# Altium footprint library PCB_lib.PcbLib: 29 footprints (part 2 of 2)
Each footprint in its own frame and in the unit in brackets; x right, y up, seen from the top. Pads: shape width x height; smd on the part's side, far side on the other; paste and mask are expansions set on the pad; w line width, h text height; cw(c..) or ccw(c..) is an arc to the next point about the centre after c.
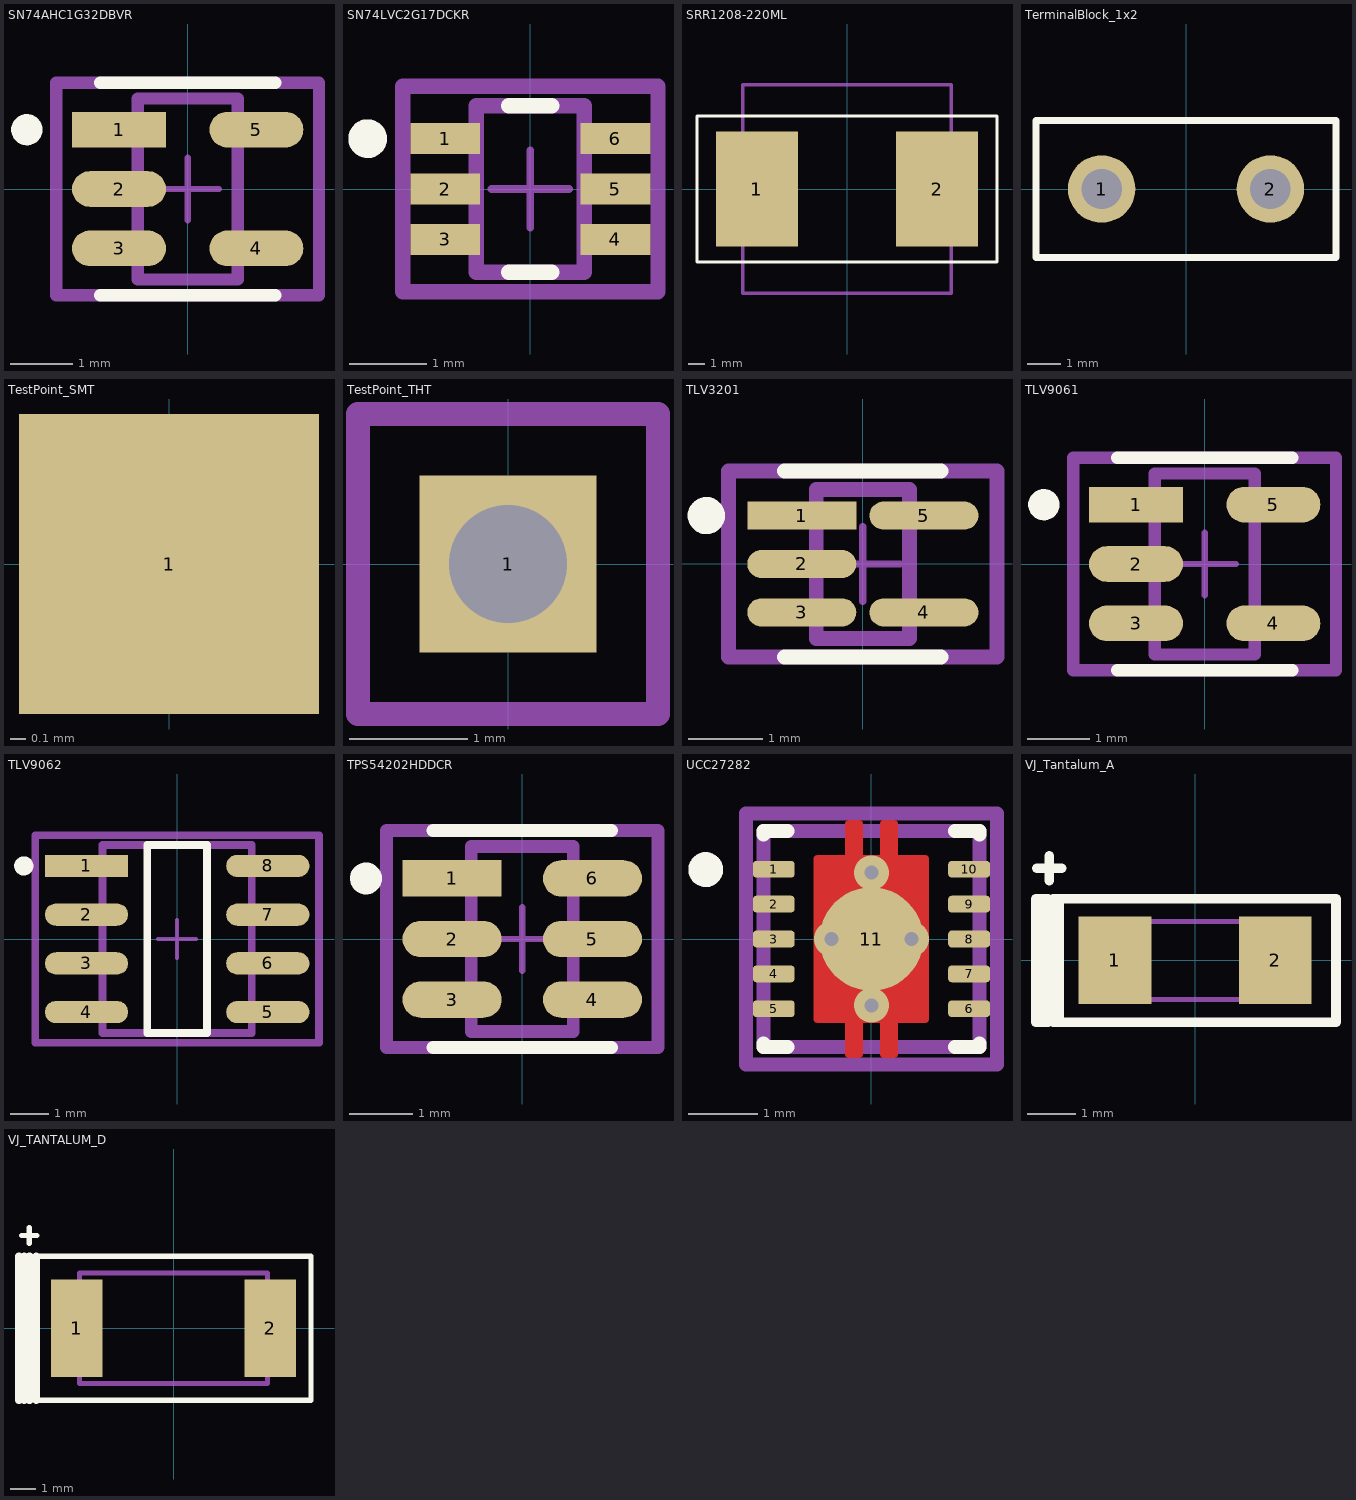
[diagram p1: the footprints below, top view; thin cyan lines are the x and y axes]

## SN74AHC1G32DBVR [mm]
pads (5):
  rect 1.505x0.572 smd paste+0 mask+0: 1(-1.1,0.95)
  rrect100% 1.505x0.572 smd paste+0 mask+0: 2(-1.1,0) 3(-1.1,-0.95) 4(1.1,-0.95) 5(1.1,0.95)
Top Overlay:
  circle w0.25: c-2.578,0.95 r0.125
  lines w0.2: -1.4,-1.7 1.4,-1.7 ; -1.4,1.7 1.4,1.7
Top Assembly:
  lines w0.2: -2.103,-1.7 2.103,-1.7 2.103,1.7 -2.103,1.7 -2.103,-1.7
  text ".Designator" at 0,-0.001 h1
Top 3D Body:
  lines w0.2: -0.8,-1.45 0.8,-1.45 0.8,1.45 -0.8,1.45 -0.8,-1.45
Top Courtyard:
  lines w0.2: -2.103,-1.7 2.103,-1.7 2.103,1.7 -2.103,1.7 -2.103,-1.7
Top Component Center:
  lines w0.1: -0.5,0 0.5,0 ; 0,-0.5 0,0.5
3D body "IC_Texas_Instruments_SN74AHC1G32DBVR_eec.STEP": height 0.25, standoff 0, extent -2.103,-1.7 2.103,1.7

## SN74LVC2G17DCKR [mm]
pads (6):
  rect 0.9x0.4 smd paste-1000 mask+0: 1(-1.1,0.65) 2(-1.1,0) 3(-1.1,-0.65) 4(1.1,-0.65) 5(1.1,0) 6(1.1,0.65)
Top Overlay:
  circle w0.25: c-2.1,0.65 r0.125
  lines w0.2: -0.275,-1.075 0.275,-1.075 ; -0.275,1.075 0.275,1.075
Top Paste:
  rectangle: 0.675,-0.825 1.525,-0.475
  rectangle: 0.675,-0.175 1.525,0.175
  rectangle: 0.675,0.475 1.525,0.825
  rectangle: -1.525,-0.825 -0.675,-0.475
  rectangle: -1.525,-0.175 -0.675,0.175
  rectangle: -1.525,0.475 -0.675,0.825
Top Assembly:
  lines w0.2: -1.65,-1.325 -1.65,1.325 1.65,1.325 1.65,-1.325 -1.65,-1.325
  text ".Designator" at 0,0.188 h1
Top 3D Body:
  lines w0.2: -0.7,-1.075 -0.7,1.075 0.7,1.075 0.7,-1.075 -0.7,-1.075
Top Courtyard:
  lines w0.2: -1.65,-1.325 -1.65,1.325 1.65,1.325 1.65,-1.325 -1.65,-1.325
Top Component Center:
  lines w0.1: -0.5,0 0.5,0 ; 0,-0.5 0,0.5
3D body "IC_Texas_Instruments_INA213AIDCKR_eec.STEP": height 0.25, standoff 0, extent -1.65,-1.325 1.65,1.325

## SRR1208-220ML [mm]
pads (2):
  rect 5x7 smd mask+0.5: 1(-5.5,0) 2(5.5,0)
Top Overlay:
  lines w0.2: -9.144,-4.445 -9.144,4.445 9.144,4.445 9.144,2.222 9.144,-2.222 9.144,-4.445 -9.144,-4.445
Mechanical 1:
  lines w0.2: -6.35,-6.35 6.35,-6.35 6.35,6.35 -6.35,6.35 -6.35,-6.35
Designator:
  text ".Designator" at -2.499,-0.167 h0.5
3D body "srr1208.stp": height 8.55, standoff 0.05, extent -6.35,-6.35 6.35,6.35

## TerminalBlock_1x2 [mm]
pads (2):
  round 2 hole 1.2 mask+0.3: 1(-2.5,0) 2(2.5,0)
Top Overlay:
  lines w0.2: -4.445,-2.032 4.445,-2.032 4.445,2.032 -4.445,2.032 -4.445,-2.032
3D body "DG126-5.0-02P-14-00Z_H_.stp": height 10.25, standoff -3.85, extent -5.403,-4 5.657,3.8

## TestPoint_SMT [mm]
pads (1):
  rect 2x2 smd mask+0.3: 1(0,0)

## TestPoint_THT [mm]
pads (1):
  rect 1.5x1.5 hole 1 mask+0.2: 1(0,0)
Mechanical 1:
  lines w0.2: -1.27,-1.27 1.27,-1.27 1.27,1.27 -1.27,1.27 -1.27,-1.27
3D body "90120-0761.stp": height 9.25, standoff -2.87, extent -1.27,-1.25 1.27,1.25

## TLV3201 [mm]
pads (5):
  rect 1.464x0.376 smd paste+0 mask+0: 1(-0.82,0.65)
  rrect100% 1.464x0.376 smd paste+0 mask+0: 2(-0.82,0) 3(-0.82,-0.65) 4(0.82,-0.65) 5(0.82,0.65)
Top Overlay:
  circle w0.25: c-2.102,0.65 r0.125
  lines w0.2: -1.05,-1.25 1.05,-1.25 ; -1.05,1.25 1.05,1.25
Top Assembly:
  lines w0.2: -1.802,-1.25 -1.802,1.25 1.802,1.25 1.802,-1.25 -1.802,-1.25
  text ".Designator" at 0,-0.001 h1
Top 3D Body:
  lines w0.2: -0.625,-1 -0.625,1 0.625,1 0.625,-1 -0.625,-1
Top Courtyard:
  lines w0.2: -1.802,-1.25 -1.802,1.25 1.802,1.25 1.802,-1.25 -1.802,-1.25
Top Component Center:
  lines w0.1: -0.5,0 0.5,0 ; 0,-0.5 0,0.5
3D body "IC_Texas_Instruments_SN74AUC1G125DCKR_eec.STEP": height 0.25, standoff 0, extent -1.802,-1.25 1.802,1.25

## TLV9061 [mm]
pads (5):
  rect 1.505x0.572 smd paste+0 mask+0: 1(-1.1,0.95)
  rrect100% 1.505x0.572 smd paste+0 mask+0: 2(-1.1,0) 3(-1.1,-0.95) 4(1.1,-0.95) 5(1.1,0.95)
Top Overlay:
  circle w0.25: c-2.578,0.95 r0.125
  lines w0.2: -1.4,-1.7 1.4,-1.7 ; -1.4,1.7 1.4,1.7
Top Assembly:
  lines w0.2: -2.103,-1.7 -2.103,1.7 2.103,1.7 2.103,-1.7 -2.103,-1.7
  text ".Designator" at 0,-0.001 h1
Top 3D Body:
  lines w0.2: -0.8,-1.45 -0.8,1.45 0.8,1.45 0.8,-1.45 -0.8,-1.45
Top Courtyard:
  lines w0.2: -2.103,-1.7 -2.103,1.7 2.103,1.7 2.103,-1.7 -2.103,-1.7
Top Component Center:
  lines w0.1: -0.5,0 0.5,0 ; 0,-0.5 0,0.5
3D body "IC_Texas_Instruments_SN74AHC1G32DBVR_eec.STEP": height 0.25, standoff 0, extent -2.103,-1.7 2.103,1.7

## TLV9062 [mm]
pads (8):
  rect 2.169x0.582 smd paste+0 mask+0: 1(-2.364,1.905)
  rrect100% 2.169x0.582 smd paste+0 mask+0: 2(-2.364,0.635) 3(-2.364,-0.635) 4(-2.364,-1.905) 5(2.364,-1.905) 6(2.364,-0.635) 7(2.364,0.635) 8(2.364,1.905)
Top Overlay:
  circle w0.25: c-3.998,1.905 r0.125
  lines w0.2: -0.779,-2.452 0.779,-2.452 0.779,2.452 -0.779,2.452 -0.779,-2.452
Top Assembly:
  lines w0.2: -3.698,-2.702 3.698,-2.702 3.698,2.702 -3.698,2.702 -3.698,-2.702
  text ".Designator" at 0,0.188 h1
Top 3D Body:
  lines w0.2: -1.947,-2.452 1.947,-2.452 1.947,2.452 -1.947,2.452 -1.947,-2.452
Top Courtyard:
  lines w0.2: -3.698,-2.702 3.698,-2.702 3.698,2.702 -3.698,2.702 -3.698,-2.702
Top Component Center:
  lines w0.1: -0.5,0 0.5,0 ; 0,-0.5 0,0.5
3D body "IC_Texas_Instruments_ISO7220ADR_eec.STEP": height 0.25, standoff 0, extent -3.698,-2.702 3.698,2.702

## TPS54202HDDCR [mm]
pads (6):
  rect 1.554x0.572 smd paste+0 mask+0: 1(-1.1,0.95)
  rrect100% 1.554x0.572 smd paste+0 mask+0: 2(-1.1,0) 3(-1.1,-0.95) 4(1.1,-0.95) 5(1.1,0) 6(1.1,0.95)
Top Overlay:
  circle w0.25: c-2.45,0.95 r0.125
  lines w0.2: -1.4,-1.7 1.4,-1.7 ; -1.4,1.7 1.4,1.7
Top Assembly:
  lines w0.2: -2.127,-1.7 -2.127,1.7 2.127,1.7 2.127,-1.7 -2.127,-1.7
  text ".Designator" at 0,0.188 h1
Top 3D Body:
  lines w0.2: -0.8,-1.45 -0.8,1.45 0.8,1.45 0.8,-1.45 -0.8,-1.45
Top Courtyard:
  lines w0.2: -2.127,-1.7 -2.127,1.7 2.127,1.7 2.127,-1.7 -2.127,-1.7
Top Component Center:
  lines w0.1: -0.5,0 0.5,0 ; 0,-0.5 0,0.5
3D body "IC_Texas_Instruments_TPS562201DDCT_eec.STEP": height 0.25, standoff 0, extent -2.127,-1.7 2.127,1.7

## UCC27282 [mm]
pads (11):
  rrect42% 0.6x0.24 smd paste+0 mask+0: 1(-1.4,1) 2(-1.4,0.5) 3(-1.4,0) 4(-1.4,-0.5) 5(-1.4,-1) 6(1.4,-1) 7(1.4,-0.5) 8(1.4,0) 9(1.4,0.5) 10(1.4,1)
  round 1.485 smd paste-1000 mask+0: 11(0,0)
via -0.575,0 diameter 0.5 hole 0.2
via 0.575,0 diameter 0.5 hole 0.2
via 0,0.95 diameter 0.5 hole 0.2
via 0,-0.95 diameter 0.5 hole 0.2
Top Layer:
  region: -0.825,-1.15 -0.825,-1.16 -0.817,-1.178 -0.803,-1.192 -0.785,-1.2 -0.775,-1.2 -0.375,-1.2 -0.375,-1.65 -0.375,-1.66 -0.367,-1.678 -0.353,-1.692 -0.335,-1.7 -0.325,-1.7 -0.175,-1.7 -0.165,-1.7 -0.147,-1.692 -0.133,-1.678 -0.125,-1.66 -0.125,-1.65 -0.125,-1.2 0.125,-1.2 0.125,-1.65 0.125,-1.66 0.133,-1.678 0.147,-1.692 0.165,-1.7 0.175,-1.7 0.325,-1.7 0.335,-1.7 0.353,-1.692 0.367,-1.678 0.375,-1.66 0.375,-1.65 0.375,-1.2 0.775,-1.2 0.785,-1.2 0.803,-1.192 0.817,-1.178 0.825,-1.16 0.825,-1.15 0.825,1.15 0.825,1.16 0.817,1.178 0.803,1.192 0.785,1.2 0.775,1.2 0.375,1.2 0.375,1.65 0.375,1.66 0.367,1.678 0.353,1.692 0.335,1.7 0.325,1.7 0.175,1.7 0.165,1.7 0.147,1.692 0.133,1.678 0.125,1.66 0.125,1.65 0.125,1.2 -0.125,1.2 -0.125,1.65 -0.125,1.66 -0.133,1.678 -0.147,1.692 -0.165,1.7 -0.175,1.7 -0.325,1.7 -0.335,1.7 -0.353,1.692 -0.367,1.678 -0.375,1.66 -0.375,1.65 -0.375,1.2 -0.775,1.2 -0.785,1.2 -0.803,1.192 -0.817,1.178 -0.825,1.16 -0.825,1.15
Top Overlay:
  circle w0.25: c-2.375,0.995 r0.125
  lines w0.2: -1.55,-1.495 -1.55,-1.55 -1.2,-1.55 ; -1.55,1.495 -1.55,1.55 -1.2,1.55 ; 1.2,-1.55 1.55,-1.55 1.55,-1.495 ; 1.2,1.55 1.55,1.55 1.55,1.495
Top Paste:
  drawing of 6 lines, arcs and shapes, not listed
Top Assembly:
  lines w0.2: -1.8,-1.8 1.8,-1.8 1.8,1.8 -1.8,1.8 -1.8,-1.8
  text ".Designator" at 0,0.188 h1
Top 3D Body:
  lines w0.2: -1.55,-1.55 1.55,-1.55 1.55,1.55 -1.55,1.55 -1.55,-1.55
Top Courtyard:
  lines w0.2: -1.8,-1.8 1.8,-1.8 1.8,1.8 -1.8,1.8 -1.8,-1.8
Top Component Center:
  lines w0.1: -0.54,0 0.54,0 ; 0,-0.54 0,0.54
3D body "IC_Texas_Instruments_LM5165XDRCT_eec.STEP": height 0.25, standoff 0, extent -1.8,-1.8 1.8,1.8

## VJ_Tantalum_A [mm]
pads (2):
  rect 1.5x1.8 smd: 1(-1.65,0) 2(1.65,0)
Top Overlay:
  lines w0.2: -3.254,1.9 -2.746,1.9 ; -3.148,-1.27 -3.148,1.27 -3.275,1.27 ; -3,1.646 -3,2.154 ; -2.921,-1.27 -2.667,-1.27 ; -2.921,1.27 -2.667,1.27 ; -2.8,-1.27 -2.8,-0.635 -2.8,0.635 -2.8,1.27 ; -2.794,-1.27 -2.667,-1.27 ; -3.275,1.27 -3.275,-1.27 -3.021,-1.27 -3.021,1.27 -3.275,1.27 ; -2.894,-0.635 -2.894,-1.27 -2.894,-0.635 ; -2.894,-0.635 -2.894,0.635 ; -2.894,-0.635 -2.894,0.635 ; -2.894,0.635 -2.894,1.27 -2.894,0.635 ; -2.667,-1.27 2.9,-1.27 2.9,1.27 -2.286,1.27 ; -2.667,1.27 -2.286,1.27 ; -2.667,1.27 -2.286,1.27
Mechanical 1:
  lines w0.1: -1.6,-0.8 1.6,-0.8 1.6,0.8 -1.6,0.8 -1.6,-0.8
3D body: height 1.6, standoff 0, extent -1.65,-0.85 1.65,0.85

## VJ_TANTALUM_D [mm]
pads (2):
  rect 2x3.8 smd: 1(-3.75,0) 2(3.75,0)
Top Overlay:
  lines w0.2: -5.9,3.6 -5.3,3.6 ; -5.6,3.3 -5.6,3.9 ; -5.334,-2.794 5.334,-2.794 5.334,2.794 -5.334,2.794
  lines w0.3: -6,-2.794 -6,-1.397 -6,1.397 -6,2.794 ; -5.8,-2.794 -5.8,-1.397 -5.8,1.397 -5.8,2.794 ; -5.588,-2.794 -5.588,2.794 ; -5.334,-2.794 -5.334,2.794
Mechanical 1:
  lines w0.2: -3.65,-2.15 -3.65,2.15 3.65,2.15 3.65,-2.15 -3.65,-2.15
3D body: height 1.6, standoff 0, extent -3.75,-2.25 3.75,2.25